# Altium integrated library BCP56.IntLib: 2 symbols
Pins are listed as number, name and electrical type; pins without a type are passive.

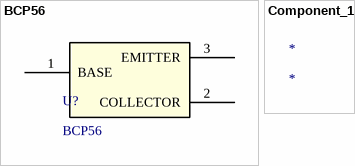
[diagram p0: symbols BCP56 to Component_1]

## BCP56
designator U?
No Description Available; Mfr_Name: onsemi; Copyright: Copyright (C) 2022 Ultra Librarian. All rights reserved.; Manufacturer_Part_Number: BCP56; Digi-Key_Part_Number_1: BCP56CT-ND; Digi-Key_Part_Number_2: BCP56FSCT-ND; Digi-Key_Part_Number_3: BCP56FSDKR-ND; Digi-Key_Part_Number_4: BCP56FSTR-ND; RefDes: RefDes; Type: DEV
footprint SOT223_FAS
pins: 1 BASE, 2 COLLECTOR, 3 EMITTER

## Component_1
designator *